# Altium integrated library STM32KIT.IntLib: 1 symbol
Pins are listed as number, name and electrical type; pins without a type are passive.

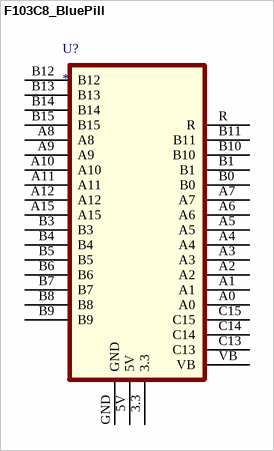
[diagram p0: symbol F103C8_BluePill]

## F103C8_BluePill
designator U?
footprint F103_BluePill
pins: 3.3, 5V, A0, A1, A2, A3, A4, A5, A6, A7, A8, A9, A10, A11, A12, A15, B0, B1, B3, B4, B5, B6, B7, B8, B9, B10, B11, B12, B13, B14, B15, C13, C14, C15, GND, R, VB